# Altium schematic symbol library STM32L031GxU.SchLib: 1 symbol
Pins are listed as number, name and electrical type; pins without a type are passive.

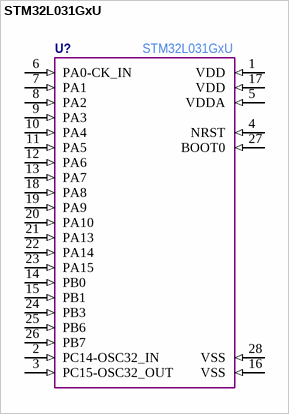
[diagram p0: symbol STM32L031GxU]

## STM32L031GxU
designator U?  Manufacturer Part Number: STM32L031GxU  (hidden comment: *)
pins: 1 VDD (in), 2 PC14-OSC32_IN (in), 3 PC15-OSC32_OUT (in), 4 NRST (in), 5 VDDA (in), 6 PA0-CK_IN (in), 7 PA1 (in), 8 PA2 (in), 9 PA3 (in), 10 PA4 (in), 11 PA5 (in), 12 PA6 (in), 13 PA7 (in), 14 PB0 (in), 15 PB1 (in), 16 VSS (in), 17 VDD (in), 18 PA8 (in), 19 PA9 (in), 20 PA10 (in), 21 PA13 (in), 22 PA14 (in), 23 PA15 (in), 24 PB3 (in), 25 PB6 (in), 26 PB7 (in), 27 BOOT0 (in), 28 VSS (in)